# Altium schematic symbol library EMDC_VoltageReferences.SchLib: 1 symbol
Pins are listed as number, name and electrical type; pins without a type are passive.

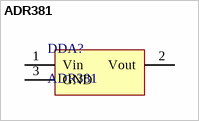
[diagram p0: symbol ADR381]

## ADR381
designator DDA?
2.5V Voltage Reference low drift
footprint SOT-23-3
pins: 1 Vin, 2 Vout, 3 GND